# Altium schematic symbol library SCH - CLOCK - MICROCHIP PL123.SCHLIB: 1 symbol
Pins are listed as number, name and electrical type; pins without a type are passive.

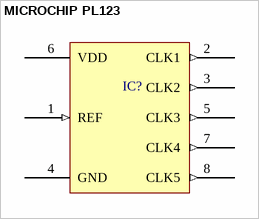
[diagram p0: symbol MICROCHIP PL123]

## MICROCHIP PL123
designator IC?
pins: 1 REF (in), 2 CLK1 (out), 3 CLK2 (out), 4 GND (power), 5 CLK3 (out), 6 VDD (power), 7 CLK4 (out), 8 CLK5 (out)